# Altium footprint library TPS61090.PcbLib: 1 footprints
Each footprint in its own frame and in the unit in brackets; x right, y up, seen from the top. Pads: shape width x height; smd on the part's side, far side on the other; paste and mask are expansions set on the pad; w line width, h text height; cw(c..) or ccw(c..) is an arc to the next point about the centre after c.
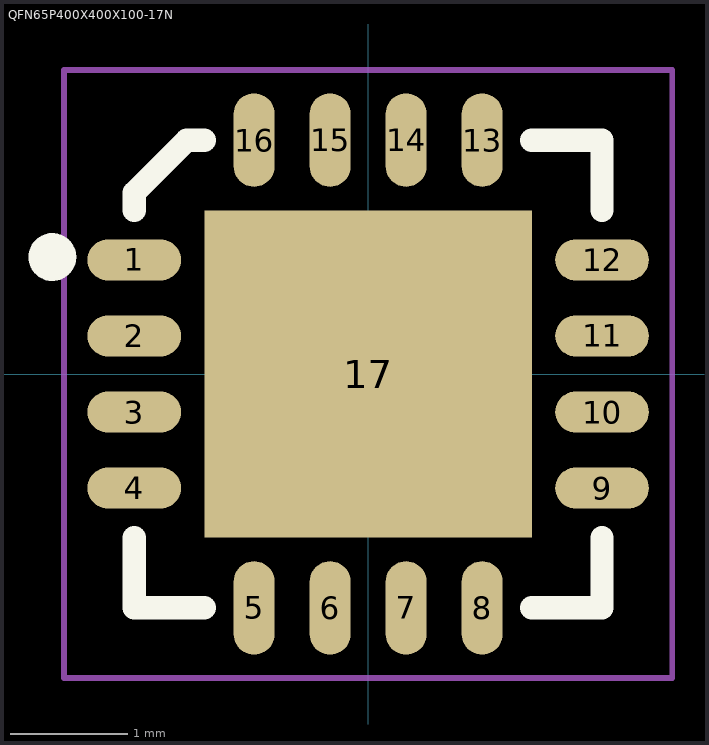
[diagram p0: the footprint, top view; thin cyan lines are the x and y axes]

## QFN65P400X400X100-17N [mm]
pads (17):
  oval 0.8x0.35 smd paste-25.4: 1(-2,0.975) 2(-2,0.325) 3(-2,-0.325) 4(-2,-0.975) 9(2,-0.975) 10(2,-0.325) 11(2,0.325) 12(2,0.975)
  oval 0.35x0.8 smd paste-25.4: 5(-0.975,-2) 6(-0.325,-2) 7(0.325,-2) 8(0.975,-2) 13(0.975,2) 14(0.325,2) 15(-0.325,2) 16(-0.975,2)
  rect 2.8x2.8 smd mask-25.4: 17(0,0)
Top Overlay:
  circle w0.127: c-2.7,1 r0.05
  circle w0.127: c-2.7,1 r0.071
  circle w0.127: c-2.7,1 r0.141
  lines w0.2: -2,-1.4 -2,-2 -1.4,-2 ; -2,1.4 -2,1.55 -1.55,2 -1.4,2 ; 1.4,-2 2,-2 2,-1.4 ; 1.4,2 2,2 2,1.4
Top Paste:
  drawing of 32 lines, arcs and shapes, not listed
Top Solder:
  region: -1.5,-1.5 1.5,-1.5 1.5,1.5 -1.5,1.5
Mechanical 1:
  lines w0.05: -2.6,-2.6 2.6,-2.6 2.6,2.6 -2.6,2.6 -2.6,-2.6